# Altium schematic symbol library 1818339.SchLib: 1 symbol
Pins are listed as number, name and electrical type; pins without a type are passive.

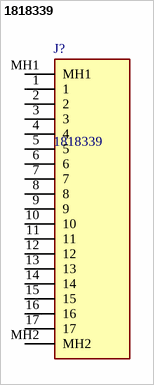
[diagram p0: symbol 1818339]

## 1818339
designator J?
MCV 1,5/17-GF-3,81-LR - PCB headers, nominal cross section: 1.5 mm<sup>2</sup>, color: green, nominal current: 8 A, rated voltage (III/2): 160 V, contact surface: Sn, contact connection type: Pin, number of potentials: 17, number of rows: 1, number of positions: 17, number of connections: 17, product range: MCV 1,5/..-GF-LR, pitch: 3.81 mm, mounting: Wave soldering, pin layout: Linear pinning, solder pin [P]: 3.4 mm, number of solder pins per potential: 1, plug-in system: COMBICON MC 1,5, Pin connector patt; Manufacturer_Name: Phoenix Contact; Geometry.Height: 9.35mm; Manufacturer_Part_Number: 1818339; Mouser Part Number: *; Mouser Price/Stock: *; Arrow Part Number: *; Arrow Price/Stock: *; Datasheet Link: https://www.phoenixcontact.com/en-us/products/pcb-header-mcv-1517-gf-381-lr-1818339?type=pdf
footprint 1818339
pins: 1, 2, 3, 4, 5, 6, 7, 8, 9, 10, 11, 12, 13, 14, 15, 16, 17, MH1, MH2